# Altium footprint library 39-30-0080_MOLEX.PCBLIB: 1 footprints
Each footprint in its own frame and in the unit in brackets; x right, y up, seen from the top. Pads: shape width x height; smd on the part's side, far side on the other; paste and mask are expansions set on the pad; w line width, h text height; cw(c..) or ccw(c..) is an arc to the next point about the centre after c.
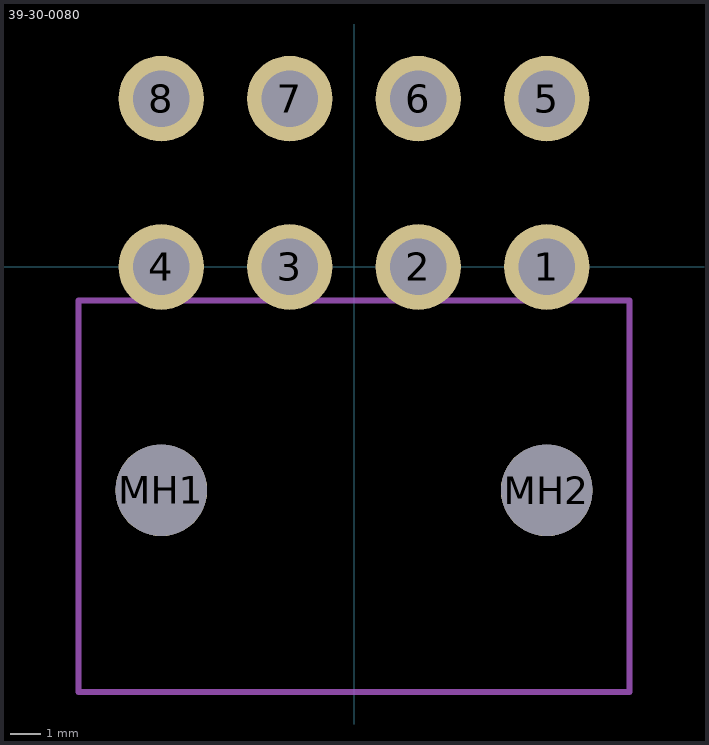
[diagram p0: the footprint, top view; thin cyan lines are the x and y axes]

## 39-30-0080 [mm]
pads (10):
  round 2.8 / inner round 1.524 / far side round 2.8 hole 1.85: 1(6.3,0) 2(2.1,0) 3(-2.1,0) 4(-6.3,0) 5(6.3,5.5) 6(2.1,5.5) 7(-2.1,5.5) 8(-6.3,5.5)
  round 3 hole 3 unplated: MH1(-6.3,-7.3) MH2(6.3,-7.3)
Assembly Top:
  lines w0.2: -9,-13.9 -9,-1.1 9,-1.1 9,-13.9 -9,-13.9
Top Assembly:
  lines w0.2: -7.494,-1.1 -9,-1.1 -9,-13.9 9,-13.9 9,-1.1 7.494,-1.1 ; -4.95,-1.1 -3.45,-1.1 ; -0.75,-1.1 0.75,-1.1 ; 3.45,-1.1 4.95,-1.1
3D body "39-30-0080.stp": height 11.4, standoff -3.6, extent -9,-13.97 9.4,5.965